# Altium schematic symbol library WiFi_Lib.SchLib: 67 symbols (part 2 of 3)
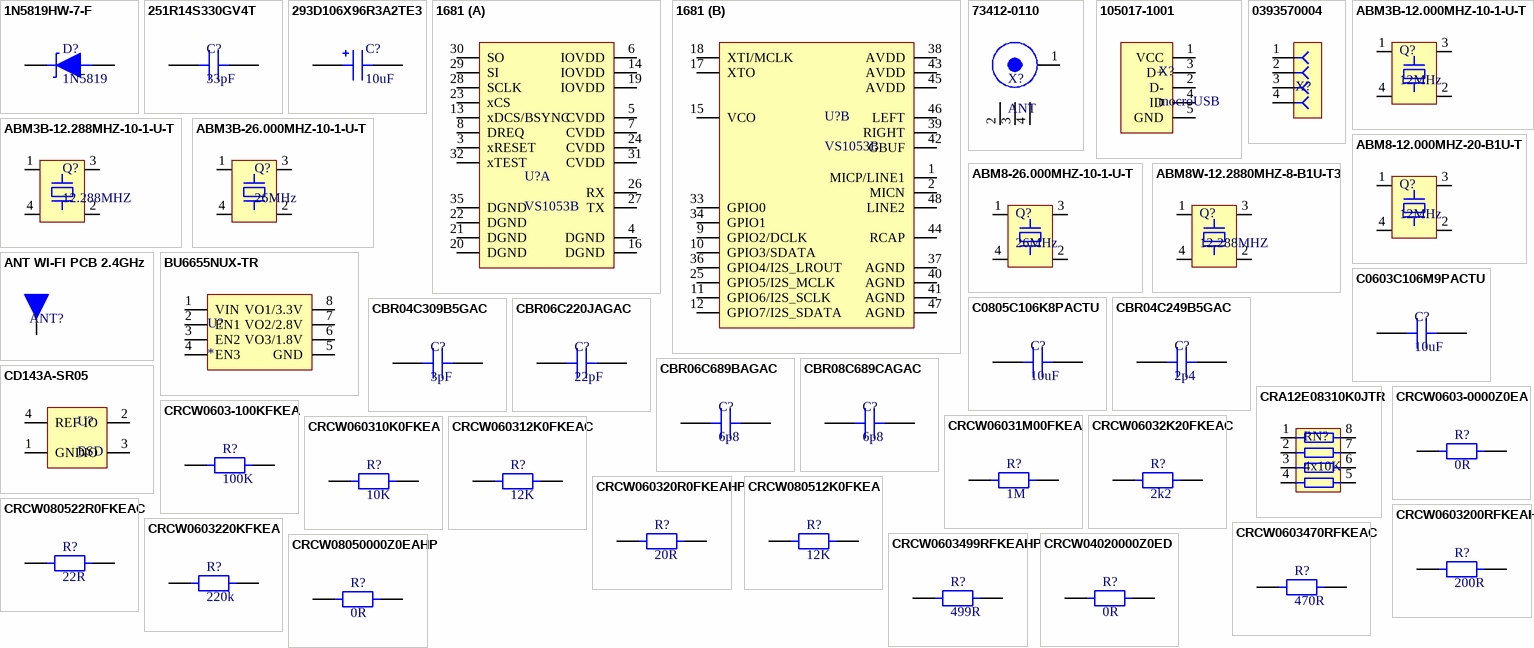
[diagram p2: symbols 1N5819HW-7-F to CRCW08050000Z0EAHP]

## CRCW060310K0FKEA
designator R?, comment 10K
RES SMD 10K 0603 1% 1/10W; Manufacturer: Vishay; Manufacturer Part Number: CRCW060310K0FKEA; Resistance: 10kR; Power Rating: 100mW; Voltage Rating: 75V; Temperature Coefficient: 100ppm/°C; Supplier 1: Digi-Key; Supplier Part Number 1: 541-10.0KHCT-ND; Stock 1: 2959816; Pricing 1: 1=0.1, 10=0.036, 100=0.0146, 1000=0.0065, 2500=0.0057 (USD); Case/Package: 0603; Number of Pins: 2; Weight: 7.1E-05oz; Case Code (Metric): 1608; Case Code (Imperial): 0603; Contact Plating: Tin,Lead; Min Operating Temperature: -55°C; Max Operating Temperature: 155°C; Tolerance: 1%; Packaging: Tape and Reel; Package Quantity: 10; Composition: Thick Film; Number of Terminations: 2; Military Standard: Not; Termination: SMD/SMT; Max Power Dissipation: 100mW; Voltage Rating (DC): 75V; Features: Automotive AEC-Q200; Length: 1.55mm; Height: 0.45mm; Width: 0.033inch; Depth: 0.85mm; Radiation Hardening: No; REACH SVHC: Unknown; Lead Free: Lead Free; ComponentLink1URL: http://www.vishay.com/docs/20008/dcrcw.pdf?src-supplier=Avnet+Europe; ComponentLink1Description: http://www.vishay.com/docs/20008/dcrcw.pdf?src-supplier=Avnet+Europe; ComponentLink2URL: https://www.verical.com/server-webapp/html/getDatasheet?partID=86831&src-supplier=Verical; ComponentLink2Description: https://www.verical.com/server-webapp/html/getDatasheet?partID=86831&src-supplier=Verical; ComponentLink3URL: http://www.farnell.com/datasheets/2310790.pdf?src-supplier=Allied+Electronics; ComponentLink3Description: http://www.farnell.com/datasheets/2310790.pdf?src-supplier=Allied+Electronics; ComponentLink4URL: http://www.vishay.com/docs/20035/dcrcwe3.pdf?src-supplier=Digi-Key; ComponentLink4Description: http://www.vishay.com/docs/20035/dcrcwe3.pdf?src-supplier=Digi-Key; ComponentLink5URL: http://www.farnell.com/datasheets/2310790.pdf?src-supplier=Mouser; ComponentLink5Description: http://www.farnell.com/datasheets/2310790.pdf?src-supplier=Mouser; ComponentLink6URL: http://www.farnell.com/datasheets/2310790.pdf?src-supplier=Element14; ComponentLink6Description: http://www.farnell.com/datasheets/2310790.pdf?src-supplier=Element14; ComponentLink7URL: http://www.farnell.com/datasheets/2310790.pdf?src-supplier=Avnet; ComponentLink7Description: http://www.farnell.com/datasheets/2310790.pdf?src-supplier=Avnet; ComponentLink8URL: http://www.vishay.com/docs/20035/dcrcwe3.pdf?src-supplier=Future+Electronics; ComponentLink8Description: http://www.vishay.com/docs/20035/dcrcwe3.pdf?src-supplier=Future+Electronics; ComponentLink9URL: http://uk.rs-online.com/webdocs/0d98/0900766b80d98afc.pdf?src-supplier=RSComponents; ComponentLink9Description: http://uk.rs-online.com/webdocs/0d98/0900766b80d98afc.pdf?src-supplier=RSComponents; ComponentLink10URL: http://www.farnell.com/datasheets/2310790.pdf?src-supplier=Distrelec; ComponentLink10Description: http://www.farnell.com/datasheets/2310790.pdf?src-supplier=Distrelec
footprint RES 0603 (Chip Resistor, 2-Leads, Body 1.60x0.85mm, IPC Medium Density)
pins: 1, 2

## CRCW060312K0FKEAC
designator R?, comment 12K
RES SMD 12K 0603 1% 1/10W; Manufacturer: Vishay; Manufacturer Part Number: CRCW060312K0FKEAC; Resistance: 12kR; Max Power Dissipation: 100mW; Temperature Coefficient: 100ppm/°C; Supplier 1: Digi-Key; Supplier Part Number 1: 541-4046-1-ND; Stock 1: 84165; Pricing 1: 1=0.1, 10=0.036, 100=0.0146, 1000=0.0065, 2500=0.0057 (USD); Case/Package: 0603; Case Code (Imperial): 0603; Case Code (Metric): 1608; Min Operating Temperature: -55°C; Max Operating Temperature: 155°C; Composition: Thick Film; Packaging: Cut Tape; Tolerance: 1%; Number of Terminations: 2; ComponentLink1URL: http://www.vishay.com/docs/28773/crcwce3.pdf?src-supplier=Digi-Key; ComponentLink1Description: http://www.vishay.com/docs/28773/crcwce3.pdf?src-supplier=Digi-Key
footprint RES 0603 (Chip Resistor, 2-Leads, Body 1.60x0.85mm, IPC Medium Density)
pins: 1, 2

## CRCW060320R0FKEAHP
designator R?, comment 20R
RES SMD 20 0603 1% 1/4W; Manufacturer: Vishay Dale; Manufacturer Part Number: CRCW060320R0FKEAHP; Power Rating: 250mW; Temperature Coefficient: 100ppm/°C; Voltage Rating: 75V; Supplier 1: Digi-Key; Supplier Part Number 1: 541-20.0SCT-ND; Stock 1: 2361; Pricing 1: 1=0.18, 10=0.149, 100=0.0581, 1000=0.0243, 2500=0.0223 (USD); Mount: Surface Mount; Case/Package: 0603; Weight: 7.1E-05oz; Case Code (Metric): 1608; Case Code (Imperial): 0603; Contact Plating: Tin; Min Operating Temperature: -55°C; Max Operating Temperature: 155°C; Resistance: 20R; Tolerance: 1%; Packaging: Tape and Reel; Package Quantity: 10; Composition: Thick Film; Number of Terminations: 2; Max Power Dissipation: 250mW; Features: Automotive AEC-Q200; Termination: Wraparound; Length: 1.6mm; Height: 0.45mm; Width: 0.033inch; Depth: 0.85mm; Radiation Hardening: No; Lead Free: Lead Free; ComponentLink1URL: http://www.vishay.com/docs/20043/crcwhpe3.pdf?src-supplier=Avnet; ComponentLink1Description: http://www.vishay.com/docs/20043/crcwhpe3.pdf?src-supplier=Avnet; ComponentLink2URL: http://www.vishay.com/docs/20043/crcwhpe3.pdf?src-supplier=Digi-Key; ComponentLink2Description: http://www.vishay.com/docs/20043/crcwhpe3.pdf?src-supplier=Digi-Key; ComponentLink3URL: http://www.vishay.com/doc?20043?src-supplier=Mouser; ComponentLink3Description: http://www.vishay.com/doc?20043?src-supplier=Mouser
footprint RES 0603 (Chip Resistor, 2-Leads, Body 1.60x0.85mm, IPC Medium Density)
pins: 1, 2

## CRCW080512K0FKEA
designator R?, comment 12K
RES SMD 12K 0805 1% 1/8W; Manufacturer: Vishay; Manufacturer Part Number: CRCW080512K0FKEA; Resistance: 12kR; Power Rating: 125mW; Voltage Rating: 150V; Temperature Coefficient: 100ppm/°C; Supplier 1: Digi-Key; Supplier Part Number 1: 541-12.0KCCT-ND; Stock 1: 69891; Mount: Surface Mount; Case/Package: 0805; Weight: 0.000194oz; Case Code (Metric): 2012; Case Code (Imperial): 0805; Contact Plating: Tin; Min Operating Temperature: -55°C; Max Operating Temperature: 155°C; Package Quantity: 10; Tolerance: 1%; Packaging: Tape and Reel; Composition: Thick Film; Number of Terminations: 2; Termination: SMD/SMT; Military Standard: Not; Max Power Dissipation: 125mW; Voltage Rating (DC): 150V; Features: Automotive AEC-Q200; Length: 2mm; Height: 0.45mm; Width: 0.049inch; Depth: 1.25mm; Radiation Hardening: No; REACH SVHC: Unknown; Lead Free: Lead Free; ComponentLink1URL: http://www.vishay.com/docs/20035/dcrcwe3.pdf?src-supplier=Digi-Key; ComponentLink1Description: http://www.vishay.com/docs/20035/dcrcwe3.pdf?src-supplier=Digi-Key; ComponentLink2URL: http://uk.rs-online.com/webdocs/13ec/0900766b813ecbf1.pdf?src-supplier=RSComponents; ComponentLink2Description: http://uk.rs-online.com/webdocs/13ec/0900766b813ecbf1.pdf?src-supplier=RSComponents; ComponentLink3URL: http://www.vishay.com/docs/20035/dcrcwe3.pdf?src-supplier=Avnet+Europe; ComponentLink3Description: http://www.vishay.com/docs/20035/dcrcwe3.pdf?src-supplier=Avnet+Europe; ComponentLink4URL: https://www.alliedelec.com/m/d/0c934d6939ccefa68dbe0b96d821c8cf.pdf?src-supplier=Allied+Electronics; ComponentLink4Description: https://www.alliedelec.com/m/d/0c934d6939ccefa68dbe0b96d821c8cf.pdf?src-supplier=Allied+Electronics; ComponentLink5URL: http://www.vishay.com/docs/20008/dcrcw.pdf?src-supplier=Future+Electronics; ComponentLink5Description: http://www.vishay.com/docs/20008/dcrcw.pdf?src-supplier=Future+Electronics; ComponentLink6URL: http://www.farnell.com/datasheets/2310790.pdf?src-supplier=Element14; ComponentLink6Description: http://www.farnell.com/datasheets/2310790.pdf?src-supplier=Element14
footprint RES 0805 (Chip Resistor, 2-Leads, Body 1.95x1.20mm, IPC Medium Density)
pins: 1, 2

## CRCW080522R0FKEAC
designator R?, comment 22R
RES SMD 22 0805 1% 1/8W; Manufacturer: Vishay Dale; Manufacturer Part Number: CRCW080522R0FKEAC; Max Power Dissipation: 125mW; Temperature Coefficient: 100ppm/°C; Supplier 1: Digi-Key; Supplier Part Number 1: 541-4151-1-ND; Stock 1: 86811; Case/Package: 0805; Case Code (Imperial): 0805; Case Code (Metric): 2012; Min Operating Temperature: -55°C; Max Operating Temperature: 155°C; Composition: Thick Film; Packaging: Tape and Reel; Resistance: 22R; Tolerance: 1%; Number of Terminations: 2; ComponentLink1URL: http://www.vishay.com/docs/28773/crcwce3.pdf?src-supplier=Digi-Key; ComponentLink1Description: http://www.vishay.com/docs/28773/crcwce3.pdf?src-supplier=Digi-Key
footprint RES 0805 (Chip Resistor, 2-Leads, Body 1.95x1.20mm, IPC Medium Density)
pins: 1, 2

## CRCW0603200RFKEAHP
designator R?, comment 200R
RES SMD 200 0603 1% 1/4W; Manufacturer: Vishay Dale; Manufacturer Part Number: CRCW0603200RFKEAHP; Power Rating: 250mW; Temperature Coefficient: 100ppm/°C; Supplier 1: Digi-Key; Supplier Part Number 1: 541-200SCT-ND; Stock 1: 55054; Pricing 1: 1=0.18, 10=0.149, 100=0.0581, 1000=0.0243, 2500=0.0223 (USD); Mount: Surface Mount; Case/Package: 0603; Case Code (Metric): 1608; Case Code (Imperial): 0603; Contact Plating: Tin; Min Operating Temperature: -55°C; Max Operating Temperature: 155°C; Package Quantity: 5000; Resistance: 200R; Tolerance: 1%; Packaging: Tape and Reel; Composition: Thick Film; Number of Terminations: 2; Max Power Dissipation: 250mW; Features: Automotive AEC-Q200; Length: 0.063inch; Height: 0.022inch; Width: 0.033inch; Radiation Hardening: No; Lead Free: Lead Free; ComponentLink1URL: http://www.vishay.com/docs/20043/crcwhpe3.pdf?src-supplier=Digi-Key; ComponentLink1Description: http://www.vishay.com/docs/20043/crcwhpe3.pdf?src-supplier=Digi-Key; ComponentLink2URL: http://www.vishay.com/docs/20043/crcwhpe3.pdf?src-supplier=Avnet; ComponentLink2Description: http://www.vishay.com/docs/20043/crcwhpe3.pdf?src-supplier=Avnet
footprint RES 0603 (Chip Resistor, 2-Leads, Body 1.60x0.85mm, IPC Medium Density)
pins: 1, 2

## CRCW0603220KFKEA
designator R?, comment 220k
RES SMD 220K 0603 1% 1/10W; Manufacturer: Vishay; Manufacturer Part Number: CRCW0603220KFKEA; Resistance: 220kR; Power Rating: 100mW; Voltage Rating: 75V; Temperature Coefficient: 100ppm/°C; Supplier 1: Digi-Key; Supplier Part Number 1: 541-220KHCT-ND; Stock 1: 19405; Pricing 1: 1=0.1, 10=0.036, 100=0.0146, 1000=0.0065, 2500=0.0057 (USD); Case/Package: 0603; Weight: 7.1E-05oz; Case Code (Imperial): 0603; Case Code (Metric): 1608; Contact Plating: Tin; Min Operating Temperature: -55°C; Max Operating Temperature: 155°C; Tolerance: 1%; Packaging: Tape and Reel; Package Quantity: 10; Composition: Thick Film; Termination: SMD/SMT; Number of Terminations: 2; Military Standard: Not; Max Power Dissipation: 100mW; Voltage Rating (DC): 75V; Features: Automotive AEC-Q200; Length: 1.55mm; Height: 0.45mm; Width: 0.85mm; Depth: 0.85mm; Radiation Hardening: No; REACH SVHC: Unknown; Lead Free: Lead Free; ComponentLink1URL: http://www.alliedelec.com/m/d/0c934d6939ccefa68dbe0b96d821c8cf.pdf?src-supplier=Allied+Electronics; ComponentLink1Description: http://www.alliedelec.com/m/d/0c934d6939ccefa68dbe0b96d821c8cf.pdf?src-supplier=Allied+Electronics; ComponentLink2URL: https://www.distrelec.biz/Web/Downloads/a_/en/flD-CRCW-e3_data_en.pdf?mime=application%2Fpdf&src-supplier=Distrelec; ComponentLink2Description: https://www.distrelec.biz/Web/Downloads/a_/en/flD-CRCW-e3_data_en.pdf?mime=application%2Fpdf&src-supplier=Distrelec; ComponentLink3URL: http://www.mouser.com/ds/2/427/dcrcwe3-109170.pdf?src-supplier=Mouser; ComponentLink3Description: http://www.mouser.com/ds/2/427/dcrcwe3-109170.pdf?src-supplier=Mouser; ComponentLink4URL: https://www.alliedelec.com/m/d/0c934d6939ccefa68dbe0b96d821c8cf.pdf?src-supplier=Allied+Electronics; ComponentLink4Description: https://www.alliedelec.com/m/d/0c934d6939ccefa68dbe0b96d821c8cf.pdf?src-supplier=Allied+Electronics; ComponentLink5URL: http://www.vishay.com/docs/20035/dcrcwe3.pdf?src-supplier=Digi-Key; ComponentLink5Description: http://www.vishay.com/docs/20035/dcrcwe3.pdf?src-supplier=Digi-Key; ComponentLink6URL: http://uk.rs-online.com/webdocs/0d98/0900766b80d98afc.pdf?src-supplier=RSComponents; ComponentLink6Description: http://uk.rs-online.com/webdocs/0d98/0900766b80d98afc.pdf?src-supplier=RSComponents; ComponentLink7URL: http://www.vishay.com/docs/20035/dcrcwe3.pdf?src-supplier=Avnet+Europe; ComponentLink7Description: http://www.vishay.com/docs/20035/dcrcwe3.pdf?src-supplier=Avnet+Europe; ComponentLink8URL: http://www.vishay.com/docs/20035/dcrcwe3.pdf?src-supplier=Avnet; ComponentLink8Description: http://www.vishay.com/docs/20035/dcrcwe3.pdf?src-supplier=Avnet; ComponentLink9URL: http://www.farnell.com/datasheets/2045673.pdf?src-supplier=Element14; ComponentLink9Description: http://www.farnell.com/datasheets/2045673.pdf?src-supplier=Element14
footprint RES 0603 (Chip Resistor, 2-Leads, Body 1.60x0.85mm, IPC Medium Density)
pins: 1, 2

## CRCW0603470RFKEAC
designator R?, comment 470R
RES SMD 470 0603 1% 1/10W; Manufacturer: Vishay; Manufacturer Part Number: CRCW0603470RFKEAC; Power Rating: 100mW; Supplier 1: Digi-Key; Supplier Part Number 1: 541-4038-1-ND; Stock 1: 239653; Pricing 1: 1=0.1, 10=0.036, 100=0.0146, 1000=0.0065, 2500=0.0057 (USD); Case/Package: 0603; Resistance: 470R; Tolerance: 1%; Lead Free: Lead Free; ComponentLink1URL: http://www.vishay.com/docs/28773/crcwce3.pdf?src-supplier=Digi-Key; ComponentLink1Description: http://www.vishay.com/docs/28773/crcwce3.pdf?src-supplier=Digi-Key
footprint RES 0603 (Chip Resistor, 2-Leads, Body 1.60x0.85mm, IPC Medium Density)
pins: 1, 2

## CRCW0603499RFKEAHP
designator R?, comment 499R
RES SMD 499 0603 1% 1/4W; Manufacturer: Vishay Dale; Manufacturer Part Number: CRCW0603499RFKEAHP; Power Rating: 250mW; Voltage Rating: 75V; Temperature Coefficient: 100ppm/°C; Supplier 1: Digi-Key; Supplier Part Number 1: 541-499SCT-ND; Stock 1: 127078; Pricing 1: 1=0.18, 10=0.149, 100=0.0581, 1000=0.0243, 2500=0.0223 (USD); Case/Package: 0603; Weight: 7.1E-05oz; Case Code (Metric): 1608; Case Code (Imperial): 0603; Contact Plating: Tin; Min Operating Temperature: -55°C; Max Operating Temperature: 155°C; Resistance: 499R; Tolerance: 1%; Packaging: Tape and Reel; Package Quantity: 10; Composition: Thick Film; Number of Terminations: 2; Termination: SMD/SMT; Military Standard: Not; Max Power Dissipation: 250mW; Features: Automotive AEC-Q200; Length: 1.6mm; Height: 0.45mm; Width: 0.033inch; Depth: 0.85mm; Radiation Hardening: No; Lead Free: Lead Free; ComponentLink1URL: http://www.vishay.com/docs/20043/crcwhpe3.pdf?src-supplier=Digi-Key; ComponentLink1Description: http://www.vishay.com/docs/20043/crcwhpe3.pdf?src-supplier=Digi-Key; ComponentLink2URL: http://www.mouser.com/ds/2/427/crcwhpe3-46056.pdf?src-supplier=Mouser; ComponentLink2Description: http://www.mouser.com/ds/2/427/crcwhpe3-46056.pdf?src-supplier=Mouser; ComponentLink3URL: http://www.vishay.com/docs/20043/crcwhpe3.pdf?src-supplier=Avnet; ComponentLink3Description: http://www.vishay.com/docs/20043/crcwhpe3.pdf?src-supplier=Avnet
footprint RES 0603 (Chip Resistor, 2-Leads, Body 1.60x0.85mm, IPC Medium Density)
pins: 1, 2

## CRCW04020000Z0ED
designator R?, comment 0R
RES SMD 0R 0402 JUMPER 1/16W; Manufacturer: Vishay; Manufacturer Part Number: CRCW04020000Z0ED; Resistance: 0mR; Tolerance: 5%; Power Rating: 63mW; Voltage Rating: 50V; Temperature Coefficient: 100ppm/°C; Supplier 1: Digi-Key; Supplier Part Number 1: 541-0.0JCT-ND; Stock 1: 2460113; Pricing 1: 1=0.1, 10=0.034, 25=0.0244, 50=0.0186, 100=0.0138, 250=0.0105, 500=0.0084, 1000=0.0062, 5000=0.0044 (USD); Mount: Surface Mount; Case/Package: 0402; Weight: 2.3E-05oz; Case Code (Imperial): 0402; Case Code (Metric): 1005; Contact Plating: Tin; Min Operating Temperature: -55°C; Max Operating Temperature: 155°C; Packaging: Tape and Reel; Package Quantity: 1; Composition: Thick Film; Termination: SMD/SMT; Number of Terminations: 2; Military Standard: Not; Max Power Dissipation: 63mW; Voltage Rating (DC): 50V; Features: Automotive AEC-Q200; Length: 1mm; Height: 0.35mm; Width: 0.5mm; Depth: 0.5mm; Radiation Hardening: No; REACH SVHC: Unknown; Lead Free: Lead Free; ComponentLink1URL: http://www.vishay.com/docs/20035/dcrcwe3.pdf?src-supplier=Avnet+Europe; ComponentLink1Description: http://www.vishay.com/docs/20035/dcrcwe3.pdf?src-supplier=Avnet+Europe; ComponentLink2URL: http://www.vishay.com/docs/20035/dcrcwe3.pdf?src-supplier=Avnet; ComponentLink2Description: http://www.vishay.com/docs/20035/dcrcwe3.pdf?src-supplier=Avnet; ComponentLink3URL: http://www.vishay.com/docs/20035/dcrcwe3.pdf?src-supplier=Digi-Key; ComponentLink3Description: http://www.vishay.com/docs/20035/dcrcwe3.pdf?src-supplier=Digi-Key; ComponentLink4URL: http://www.farnell.com/datasheets/2793682.pdf?src-supplier=Element14; ComponentLink4Description: http://www.farnell.com/datasheets/2793682.pdf?src-supplier=Element14; ComponentLink5URL: http://www.vishay.com/docs/20035/dcrcwe3.pdf?src-supplier=Allied+Electronics; ComponentLink5Description: http://www.vishay.com/docs/20035/dcrcwe3.pdf?src-supplier=Allied+Electronics; ComponentLink6URL: https://www.distrelec.biz/Web/Downloads/a_/en/flD-CRCW-e3_data_en.pdf?mime=application%2Fpdf&src-supplier=Distrelec; ComponentLink6Description: https://www.distrelec.biz/Web/Downloads/a_/en/flD-CRCW-e3_data_en.pdf?mime=application%2Fpdf&src-supplier=Distrelec
footprint RES 0405 - Jumper (Chip Resistor, 2-Leads, Body 1.00x0.50mm, IPC Medium Density)
pins: 1, 2

## CRCW08050000Z0EAHP
designator R?, comment 0R
RES SMD 0R 0805 JUMPER 1/2W; Manufacturer: Vishay Dale; Manufacturer Part Number: CRCW08050000Z0EAHP; Resistance: 0mR; Tolerance: 5%; Power Rating: 330mW; Voltage Rating: 150V; Max Power Dissipation: 500mW; Temperature Coefficient: 0ppm/°C; Supplier 1: Digi-Key; Supplier Part Number 1: 541-0.0TBCT-ND; Stock 1: 330626; Pricing 1: 1=0.25, 10=0.213, 25=0.1548, 50=0.1122, 100=0.0832, 250=0.0639, 500=0.0503, 1000=0.0349 (USD); Mount: Surface Mount; Case/Package: 0805; Number of Pins: 2; Weight: 0.000194oz; Case Code (Metric): 2012; Case Code (Imperial): 0805; Contact Plating: Tin; Min Operating Temperature: -55°C; Max Operating Temperature: 155°C; Packaging: Tape and Reel; Package Quantity: 5000; Composition: Thick Film; Number of Terminations: 2; Military Standard: Not; Termination: Solder; Voltage Rating (DC): 150V; Features: Automotive AEC-Q200; Length: 2mm; Height: 0.024inch; Width: 0.049inch; Depth: 1.25mm; Radiation Hardening: No; REACH SVHC: No SVHC; Lead Free: Lead Free; ComponentLink1URL: http://www.vishay.com/docs/20043/crcwhpe3.pdf?src-supplier=Future+Electronics; ComponentLink1Description: http://www.vishay.com/docs/20043/crcwhpe3.pdf?src-supplier=Future+Electronics; ComponentLink2URL: http://www.vishay.com/docs/20043/crcwhpe3.pdf?src-supplier=Digi-Key; ComponentLink2Description: http://www.vishay.com/docs/20043/crcwhpe3.pdf?src-supplier=Digi-Key; ComponentLink3URL: http://www.mouser.com/ds/2/427/crcwhpe3-46056.pdf?src-supplier=Mouser; ComponentLink3Description: http://www.mouser.com/ds/2/427/crcwhpe3-46056.pdf?src-supplier=Mouser; ComponentLink4URL: http://www.vishay.com/docs/20043/crcwhpe3.pdf?src-supplier=Avnet+Europe; ComponentLink4Description: http://www.vishay.com/docs/20043/crcwhpe3.pdf?src-supplier=Avnet+Europe; ComponentLink5URL: http://www.vishay.com/docs/20043/crcwhpe3.pdf?src-supplier=Avnet; ComponentLink5Description: http://www.vishay.com/docs/20043/crcwhpe3.pdf?src-supplier=Avnet; ComponentLink6URL: http://www.farnell.com/datasheets/2046716.pdf?src-supplier=Element14; ComponentLink6Description: http://www.farnell.com/datasheets/2046716.pdf?src-supplier=Element14
footprint RES 0805 - Jumper (Chip Resistor, 2-Leads, Body 1.95x1.20mm, IPC Medium Density)
pins: 1, 2

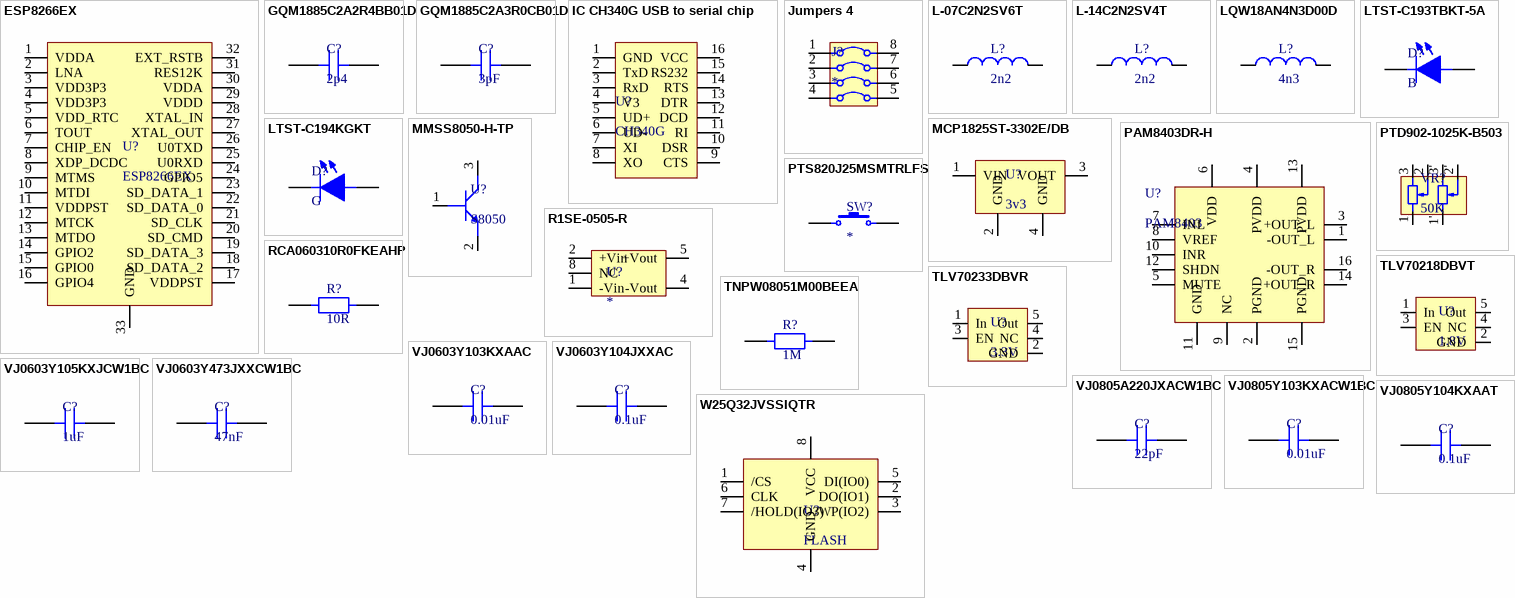
[diagram p1: symbols ESP8266EX to W25Q32JVSSIQTR]

## ESP8266EX
designator U?
IC ESP8266EX, QFN32-PIN, 5_5; Manufacturer: Espressif Systems; Interface: I2C,SPI,UART; Frequency: 2.4GHz; Data Rate: 54Mbps; Sensitivity: -91dBm; Number of GPIO: 8; Current - Receiving: 56mA; Current - Transmitting: 170mA; Supplier 1: Digi-Key; Supplier Part Number 1: 1904-1001-1-ND; Manufacturer Part Number: ESP8266EX; Stock 1: 4908; Pricing 1: 1=1.6 (USD); Packaging: Cut Tape; ComponentLink1URL: https://www.espressif.com/sites/default/files/documentation/esp8266_quick_start_guide_en.pdf?src-supplier=Digi-Key; ComponentLink1Description: https://www.espressif.com/sites/default/files/documentation/esp8266_quick_start_guide_en.pdf?src-supplier=Digi-Key
footprint QFN-32 Thermal (QFN, 32-Leads, Body 5.00x5.00mm, Pitch 0.50mm, Thermal Pad 3.70x3.70mm, IPC Medium Density)
pins: 1 VDDA, 2 LNA, 3 VDD3P3, 4 VDD3P3, 5 VDD_RTC, 6 TOUT, 7 CHIP_EN, 8 XDP_DCDC, 9 MTMS, 10 MTDI, 11 VDDPST, 12 MTCK, 13 MTDO, 14 GPIO2, 15 GPIO0, 16 GPIO4, 17 VDDPST, 18 SD_DATA_2, 19 SD_DATA_3, 20 SD_CMD, 21 SD_CLK, 22 SD_DATA_0, 23 SD_DATA_1, 24 GPIO5, 25 U0RXD, 26 U0TXD, 27 XTAL_OUT, 28 XTAL_IN, 29 VDDD, 30 VDDA, 31 RES12K, 32 EXT_RSTB, 33 GND

## GQM1885C2A2R4BB01D
designator C?, comment 2p4
CAP CER 2p4 0603 - SMD/SMT 2.4pF 100volts C0G +/-0.1pF; Manufacturer: Murata; Manufacturer Part Number: GQM1885C2A2R4BB01D; Voltage Rating: 100V; Temperature Coefficient: 30ppm/°C; Supplier 1: Digi-Key; Supplier Part Number 1: 490-6093-1-ND; Stock 1: 3198; Pricing 1: 1=0.68, 10=0.478, 100=0.3146, 500=0.233, 1000=0.1981 (USD); Mount: Surface Mount; Case/Package: 0603; Case Code (Imperial): 0603; Case Code (Metric): 1608; Min Operating Temperature: -55°C; Max Operating Temperature: 125°C; Capacitance: 2.4pF; Voltage Rating (DC): 100V; Packaging: Tape and Reel; Package Quantity: 1; Dielectric: C0G; Termination: SMD/SMT; Voltage: 100V; Length: 1.6mm; Height: 0.8mm; Width: 0.8mm; Thickness: 0.035inch; Depth: 0.8mm; Radiation Hardening: No; ComponentLink1URL: http://www.mouser.com/ds/2/281/c02e-2905.pdf?src-supplier=Mouser; ComponentLink1Description: http://www.mouser.com/ds/2/281/c02e-2905.pdf?src-supplier=Mouser; ComponentLink2URL: http://search.murata.co.jp/Ceramy/image/img/A01X/partnumbering_e_01.pdf?src-supplier=Digi-Key; ComponentLink2Description: http://search.murata.co.jp/Ceramy/image/img/A01X/partnumbering_e_01.pdf?src-supplier=Digi-Key; ComponentLink3URL: https://www.murata.com/~/media/webrenewal/support/library/catalog/products/capacitor/mlcc/c02e.ashx?la=en-us&src-supplier=Digi-Key; ComponentLink3Description: https://www.murata.com/~/media/webrenewal/support/library/catalog/products/capacitor/mlcc/c02e.ashx?la=en-us&src-supplier=Digi-Key
footprint CAP 0603 (Chip Capacitor, 2-Leads, Body 1.60x0.82mm, IPC Medium Density)
pins: 1, 2

## GQM1885C2A3R0CB01D
designator C?, comment 3pF
CAP CER 3PF 0603 100V C0G/NP0; Manufacturer: Murata; Manufacturer Part Number: GQM1885C2A3R0CB01D; Dielectric: C0G; Supplier 1: Digi-Key; Supplier Part Number 1: 490-3556-1-ND; Stock 1: 2764; Pricing 1: 1=0.52, 10=0.368, 100=0.2425, 500=0.1796, 1000=0.1527 (USD); Mount: Surface Mount; Case/Package: 0603; Case Code (Metric): 1608; Case Code (Imperial): 0603; Min Operating Temperature: -55°C; Max Operating Temperature: 125°C; Package Quantity: 1; Capacitance: 3pF; Voltage Rating: 100V; Packaging: Tape and Reel; Voltage Rating (DC): 100V; Termination: SMD/SMT; Length: 1.6mm; Height: 0.8mm; Width: 0.031inch; Thickness: 0.035inch; Depth: 0.8mm; Lead Free: Lead Free; ComponentLink1URL: http://search.murata.co.jp/Ceramy/image/img/A01X/partnumbering_e_01.pdf?src-supplier=Digi-Key; ComponentLink1Description: http://search.murata.co.jp/Ceramy/image/img/A01X/partnumbering_e_01.pdf?src-supplier=Digi-Key
footprint CAP 0603 (Chip Capacitor, 2-Leads, Body 1.60x0.82mm, IPC Medium Density)
pins: 1, 2

## IC CH340G USB to serial chip
designator U?, comment CH340G
IC CH340G USB to serial chip
footprint SOP-16 (SOP, 16-Leads, Body 9.90x3.90mm, Pitch 1.27mm, IPC Medium Density)
pins: 1 GND, 2 TxD, 3 RxD, 4 V3, 5 UD+, 6 UD-, 7 XI, 8 XO, 9 CTS, 10 DSR, 11 RI, 12 DCD, 13 DTR, 14 RTS, 15 RS232, 16 VCC

## Jumpers 4
designator J?
footprint HDR 8
pins: 1, 2, 3, 4, 5, 6, 7, 8

## L-07C2N2SV6T
designator L?, comment 2n2
IND SMD 2.2NH 0402 300MA 160 MOHM; Manufacturer: Johanson; Manufacturer Part Number: L-07C2N2SV6T; Core Material: Ceramic; Q Factor: 8; Shielding: Unshielded; DC Resistance (DCR): 160mR; Self Resonant Frequency: 12GHz; Test Frequency: 100MHz; Supplier 1: Digi-Key; Supplier Part Number 1: 712-1414-1-ND; Stock 1: 253343; Pricing 1: 1=0.1, 10=0.047, 100=0.0311, 500=0.0259, 1000=0.0217, 2500=0.0186 (USD); Mount: Surface Mount; Case/Package: 0402; Number of Pins: 2; Case Code (Metric): 1005; Case Code (Imperial): 0402; Min Operating Temperature: -40°C; Max Operating Temperature: 100°C; Packaging: Tape and Reel; Package Quantity: 1; Current Rating: 300mA; Inductance: 2.2nH; Max DC Current: 300mA; Termination: SMD/SMT; DC Current: 300mA; Military Standard: Not; Length: 1.1mm; Height: 0.5mm; Width: 0.5mm; Height - Seated (Max): 0.024inch; Depth: 0.6mm; Radiation Hardening: No; REACH SVHC: No SVHC; ComponentLink1URL: http://www.farnell.com/datasheets/1168792.pdf?src-supplier=Element14; ComponentLink1Description: http://www.farnell.com/datasheets/1168792.pdf?src-supplier=Element14
footprint IND 0402
pins: 1, 2

## L-14C2N2SV4T
designator L?, comment 2n2
IND SMD 2.2 nH 0603 L-14C2N2SV4T L-14C Series, 2n2 H,  0.3nH, [1608 Metric], 0.15 ohm; Manufacturer: Johanson; Core Material: Ceramic; Current Rating: 300mA; Shielding: Unshielded; Q Factor: 12; Inductance: 2.2nH; DC Resistance (DCR): 150mR; Self Resonant Frequency: 12GHz; Test Frequency: 100MHz; Supplier 1: Digi-Key; Supplier Part Number 1: 712-1427-1-ND; Manufacturer Part Number: L-14C2N2SV4T; Stock 1: 32067; Pricing 1: 1=0.1, 10=0.062, 100=0.0411, 500=0.0342, 1000=0.0288 (USD); Mount: Surface Mount; Case/Package: 0603; Number of Pins: 2; Case Code (Metric): 1608; Case Code (Imperial): 0603; Min Operating Temperature: -40°C; Max Operating Temperature: 100°C; Package Quantity: 1; Packaging: Tape and Reel; Max DC Current: 300mA; Termination: SMD/SMT; Composition: Ceramic; DC Current: 300mA; Military Standard: Not; Length: 1.75mm; Height: 0.8mm; Width: 0.031inch; Height - Seated (Max): 0.037inch; Depth: 0.95mm; Radiation Hardening: No; REACH SVHC: No SVHC; ComponentLink1URL: https://www.johansontechnology.com/downloads/jti-cat-rf-ind.pdf?src-supplier=Digi-Key; ComponentLink1Description: https://www.johansontechnology.com/downloads/jti-cat-rf-ind.pdf?src-supplier=Digi-Key; ComponentLink2URL: http://www.farnell.com/datasheets/1327494.pdf?src-supplier=Farnell; ComponentLink2Description: http://www.farnell.com/datasheets/1327494.pdf?src-supplier=Farnell; ComponentLink3URL: http://components.arrow.com/part/dataview/0323_01334558?src-supplier=Arrow+Europe; ComponentLink3Description: http://components.arrow.com/part/dataview/0323_01334558?src-supplier=Arrow+Europe; ComponentLink4URL: http://www.mouser.com/ds/2/611/JTI_CAT_2012_Inductors_Chip-242427.pdf?src-supplier=Mouser; ComponentLink4Description: http://www.mouser.com/ds/2/611/JTI_CAT_2012_Inductors_Chip-242427.pdf?src-supplier=Mouser; ComponentLink5URL: http://components.arrow.com/part/dataview/44128055S6965326N2069?src-supplier=Arrow; ComponentLink5Description: http://components.arrow.com/part/dataview/44128055S6965326N2069?src-supplier=Arrow; ComponentLink6URL: http://www.farnell.com/datasheets/1327494.pdf?src-supplier=Element14; ComponentLink6Description: http://www.farnell.com/datasheets/1327494.pdf?src-supplier=Element14; ComponentLink7URL: https://www.verical.com/server-webapp/html/getDatasheet?partID=38558&src-supplier=Verical; ComponentLink7Description: https://www.verical.com/server-webapp/html/getDatasheet?partID=38558&src-supplier=Verical
footprint IND 0603 (Chip Inductor, 2-Leads, Body 1.60x0.85mm, IPC Medium Density)
pins: 1, 2

## LQW18AN4N3D00D
designator L?, comment 4n3
IND SMD 4.3nH 0603 850mA FIXED 59 MOHM; Manufacturer: Murata; Manufacturer Part Number: LQW18AN4N3D00D; Core Material: Non-Magnetic,Ferrite; Q Factor: 35; Self Resonant Frequency: 6GHz; Shielding: Unshielded; DC Resistance (DCR): 59mR; Test Frequency: 100MHz; Supplier 1: Digi-Key; Supplier Part Number 1: 490-1161-1-ND; Stock 1: 13187; Pricing 1: 1=0.17, 10=0.155, 100=0.1035, 500=0.0863, 1000=0.0725 (USD); Mount: Surface Mount; Case/Package: 0603; Weight: 0.000106oz; Case Code (Metric): 1608; Case Code (Imperial): 0603; Min Operating Temperature: -55°C; Max Operating Temperature: 125°C; Packaging: Tape and Reel; Inductance: 4.3nH; Package Quantity: 4000; Current Rating: 850mA; Max DC Current: 850mA; Termination: SMD/SMT; Composition: Wirewound; DC Current: 850mA; Military Standard: Not; Length: 1.6mm; Height: 0.8mm; Width: 0.8mm; Height - Seated (Max): 0.039inch; Depth: 1mm; Radiation Hardening: No; Lead Free: Lead Free; ComponentLink1URL: http://uk.rs-online.com/webdocs/1256/0900766b81256268.pdf?src-supplier=RSComponents; ComponentLink1Description: http://uk.rs-online.com/webdocs/1256/0900766b81256268.pdf?src-supplier=RSComponents; ComponentLink2URL: http://www.murata.com/~/media/webrenewal/support/library/catalog/products/inductor/chip/o05e.ashx?src-supplier=Digi-Key; ComponentLink2Description: http://www.murata.com/~/media/webrenewal/support/library/catalog/products/inductor/chip/o05e.ashx?src-supplier=Digi-Key; ComponentLink3URL: https://search.murata.co.jp/Ceramy/image/img/P02/JELF243A-0024.pdf?src-supplier=Digi-Key; ComponentLink3Description: https://search.murata.co.jp/Ceramy/image/img/P02/JELF243A-0024.pdf?src-supplier=Digi-Key
footprint IND 0603 LQW
pins: 1, 2

## LTST-C193TBKT-5A
designator D?, comment B
LED BLUE 0603 CLEAR CHIP SMD; Manufacturer: Vishay Lite-On; Manufacturer Part Number: LTST-C193TBKT-5A; Lens Color: Colorless; Forward Current: 20mA; Forward Voltage: 2.8V; Luminous Intensity: 15mcd; Viewing Angle: 130°; Lens Style: Diffused,Colorless,Rectangular,Clear; Dominant Wavelength: 475nm; Test Current: 5mA; Number of Elements: 1; Power Dissipation: 76mW; Reverse Voltage: 5V; Supplier 1: Digi-Key; Supplier Part Number 1: 160-1827-1-ND; Stock 1: 114316; Pricing 1: 1=0.45, 10=0.32, 100=0.1424, 500=0.0997, 1000=0.0819, 2500=0.0712 (USD); Mount: Surface Mount; Case/Package: 0603; Number of Pins: 2; Color: Blue; Case Code (Metric): 1608; Case Code (Imperial): 0603; Min Operating Temperature: -20°C; Max Operating Temperature: 80°C; Packaging: Tape and Reel; Package Quantity: 1; Illumination Color: Blue; Lens Transparency: Clear; Number of LEDs: 1; Length: 1.6mm; Height: 0.35mm; Width: 0.8mm; Depth: 0.8mm; Radiation Hardening: No; Lead Free: Lead Free; ComponentLink1URL: http://www.mouser.com/ds/2/239/Lite-On-LTST-C193TBKT-5A-187386.pdf?src-supplier=Mouser; ComponentLink1Description: http://www.mouser.com/ds/2/239/Lite-On-LTST-C193TBKT-5A-187386.pdf?src-supplier=Mouser; ComponentLink2URL: https://media.digikey.com/pdf/Data%20Sheets/Lite-On%20PDFs/LTST-C193TBKT-5A.pdf?src-supplier=Digi-Key; ComponentLink2Description: https://media.digikey.com/pdf/Data%20Sheets/Lite-On%20PDFs/LTST-C193TBKT-5A.pdf?src-supplier=Digi-Key; ComponentLink3URL: https://www.verical.com/server-webapp/html/getDatasheet?partID=293056&src-supplier=Verical; ComponentLink3Description: https://www.verical.com/server-webapp/html/getDatasheet?partID=293056&src-supplier=Verical; ComponentLink4URL: http://uk.rs-online.com/webdocs/0dc0/0900766b80dc0554.pdf?src-supplier=RSComponents; ComponentLink4Description: http://uk.rs-online.com/webdocs/0dc0/0900766b80dc0554.pdf?src-supplier=RSComponents; ComponentLink5URL: http://www1.futureelectronics.com/doc/LITE-ON/LTST-C193TBKT-5A.pdf?src-supplier=Future+Electronics; ComponentLink5Description: http://www1.futureelectronics.com/doc/LITE-ON/LTST-C193TBKT-5A.pdf?src-supplier=Future+Electronics
footprint LED 0603
pins: 1, 2

## LTST-C194KGKT
designator D?, comment G
LED GREEN 0603 574nm 2-Pin Chip LED T/R; Manufacturer: Vishay Lite-On; Manufacturer Part Number: LTST-C194KGKT; Lens Color: Colorless; Power Rating: 75mW; Luminous Intensity: 112mcd; Viewing Angle: 130°; Forward Voltage: 2.4V; Forward Current: 30mA; Lens Style: Diffused,Colorless,Rectangular; Lens Transparency: Clear; Test Current: 20mA; Dominant Wavelength: 576.5nm; Number of Elements: 1; Reverse Voltage: 5V; Supplier 1: Digi-Key; Supplier Part Number 1: 160-1834-1-ND; Stock 1: 36702; Pricing 1: 1=0.39, 10=0.283, 100=0.1256, 500=0.0879, 1000=0.0722, 2500=0.0628 (USD); Mount: Surface Mount; Case/Package: 0603; Number of Pins: 2; Color: Green; Case Code (Metric): 1608; Case Code (Imperial): 0603; Min Operating Temperature: -30°C; Max Operating Temperature: 85°C; Packaging: Tape and Reel; Package Quantity: 3000; Illumination Color: Green; Power Dissipation: 75mW; Number of LEDs: 1; Length: 1.6mm; Height: 0.35mm; Width: 0.8mm; Depth: 0.8mm; Radiation Hardening: No; Lead Free: Lead Free; ComponentLink1URL: http://optoelectronics.liteon.com/upload/download/DS22-2010-0197/LTST-C194KGKT.PDF?src-supplier=Digi-Key; ComponentLink1Description: http://optoelectronics.liteon.com/upload/download/DS22-2010-0197/LTST-C194KGKT.PDF?src-supplier=Digi-Key; ComponentLink2URL: https://www.verical.com/server-webapp/html/getDatasheet?partID=708771&src-supplier=Verical; ComponentLink2Description: https://www.verical.com/server-webapp/html/getDatasheet?partID=708771&src-supplier=Verical
footprint LED 0603
pins: 1, 2

## MCP1825ST-3302E/DB
designator U?, comment 3v3
IC REG LIN 3.3V 0.5A Automotive 4-Pin(3+Tab) SOT-223 T/R; Manufacturer: Microchip; Manufacturer Part Number: MCP1825ST-3302E/DB; Number of Outputs: 1; Min Input Voltage: 2.1V; Dropout Voltage: 210mV; Max Input Voltage: 6V; Output Current: 500mA; Input Bias Current: 120uA; Polarity: Positive; Quiescent Current: 220uA; Output Voltage Accuracy: 0.5%; Output Type: Fixed; Supplier 1: Digi-Key; Supplier Part Number 1: MCP1825ST-3302E/DBCT-ND; Stock 1: 17162; Pricing 1: 1=0.53, 25=0.4428, 100=0.4017 (USD); Mount: Surface Mount; Case/Package: SOT-223; Number of Pins: 3; Min Operating Temperature: -40°C; Max Operating Temperature: 125°C; Output Voltage: 3.3V; Packaging: Tape and Reel; Package Quantity: 4000; Number of Regulators: 1; Radiation Hardening: No; ComponentLink1URL: http://ww1.microchip.com/downloads/en/DeviceDoc/22056b.pdf?src-supplier=Avnet; ComponentLink1Description: http://ww1.microchip.com/downloads/en/DeviceDoc/22056b.pdf?src-supplier=Avnet; ComponentLink2URL: http://www.microchip.com/mymicrochip/filehandler.aspx?ddocname=en531698&src-supplier=Digi-Key; ComponentLink2Description: http://www.microchip.com/mymicrochip/filehandler.aspx?ddocname=en531698&src-supplier=Digi-Key
footprint SOT233-3 (SOT223, 4-Leads, Body 6.50x7.00mm (avg), Pitch 2.30mm, IPC Medium Density)
pins: 1 VIN, 2 GND, 3 VOUT, 4 GND

## MMSS8050-H-TP
designator U?, comment S8050
TRANS NPN 25V 1.5A SOT23; Manufacturer: MCC; Manufacturer Part Number: MMSS8050-H-TP; hFE Min: 120; Max Power Dissipation: 625mW; Collector Emitter Voltage (VCEO): 500mV; Collector Base Voltage (VCBO): 40V; Emitter Base Voltage (VEBO): 5V; Transition Frequency: 100MHz; Element Configuration: Single; Supplier 1: Digi-Key; Supplier Part Number 1: MMSS8050-H-TPMSCT-ND; Stock 1: 77779; Mount: Surface Mount; Case/Package: SOT-23; Number of Pins: 3; Min Operating Temperature: -55°C; Max Operating Temperature: 150°C; Packaging: Tape and Reel; Package Quantity: 3000; Polarity: NPN; Collector Emitter Saturation Voltage: 500mV; Max Collector Current: 1.5A; Collector Emitter Breakdown Voltage: 25V; Max Breakdown Voltage: 25V; Gain Bandwidth Product: 100MHz; Lead Free: Lead Free; ComponentLink1URL: http://www.mouser.com/ds/2/258/MMSS8050-255048.pdf?src-supplier=Mouser; ComponentLink1Description: http://www.mouser.com/ds/2/258/MMSS8050-255048.pdf?src-supplier=Mouser; ComponentLink2URL: http://www.mccsemi.com/up_pdf/MMSS8050(SOT-23).pdf?src-supplier=Digi-Key; ComponentLink2Description: http://www.mccsemi.com/up_pdf/MMSS8050(SOT-23).pdf?src-supplier=Digi-Key
footprint SOT-23 (SOT23, 3-Leads, Body 2.92x2.37mm, Pitch 0.90mm, IPC Medium Density)
pins: 1, 2, 3

## PAM8403DR-H
designator U?, comment PAM8403
IC AMP AUDIO 3W CLASS D 16SOIC; Manufacturer: Diodes; Manufacturer Part Number: PAM8403DR-H; Voltage Gain: 24dB; Min Supply Voltage: 2.5V; Max Supply Voltage: 5.5V; Power Supply Rejection Ratio (PSRR): 59dB; Operating Supply Voltage: 5V; Supplier 1: Digi-Key; Supplier Part Number 1: PAM8403DR-HDICT-ND; Stock 1: 8119; Pricing 1: 1=0.81, 10=0.714, 100=0.5472, 500=0.4326, 1000=0.3461 (USD); Mount: Surface Mount; Case/Package: SOP; Number of Pins: 16; Min Operating Temperature: -40°C; Max Operating Temperature: 85°C; Packaging: Tape and Reel; Package Quantity: 2500; Max Output Power: 3W; Radiation Hardening: No; ComponentLink1URL: http://www.diodes.com/datasheets/PAM8403H.pdf?src-supplier=Avnet; ComponentLink1Description: http://www.diodes.com/datasheets/PAM8403H.pdf?src-supplier=Avnet; ComponentLink2URL: https://www.diodes.com/assets/Datasheets/PAM8403H.pdf?src-supplier=Digi-Key; ComponentLink2Description: https://www.diodes.com/assets/Datasheets/PAM8403H.pdf?src-supplier=Digi-Key
footprint SOP-16 Thermal (SOP, 16-Leads, Body 9.90x3.90mm, Pitch 1.27mm, Thermal Pad 5.00x3.00mm, IPC Medium Density)
pins: 1 -OUT_L, 2 PGND, 3 +OUT_L, 4 PVDD, 5 MUTE, 6 VDD, 7 INL, 8 VREF, 9 NC, 10 INR, 11 GND, 12 SHDN, 13 PVDD, 14 +OUT_R, 15 PGND, 16 -OUT_R

## PTD902-1025K-B503
designator VR?, comment 50K
POT 50K LINEAR; Manufacturer: Bourns; Manufacturer Part Number: PTD902-1025K-B503; Resistance: 50kR; Power Rating: 50mW; Tolerance: 10%; Number of Gangs: 2; Number of Turns: 1; Actuator Length: 0.984inch; Actuator Diameter: 0.236inch; Supplier 1: Digi-Key; Supplier Part Number 1: PTD902-1025K-B503-ND; Stock 1: 183; Pricing 1: 1=2.01, 10=1.769, 25=1.586, 50=1.525, 108=1.464, 324=1.403, 540=1.159, 1080=1.098, 5076=0.915 (USD); Mount: Panel,Through Hole; Min Operating Temperature: -10°C; Max Operating Temperature: 50°C; Package Quantity: 108; Packaging: Bulk; Taper: Linear; Termination: Pin; Composition: Carbon; Military Standard: Not; Max Power Dissipation: 50mW; Type: Potentiometer; Length: 34.65mm; Depth: 9.5mm; Radiation Hardening: No; ComponentLink1URL: http://www.bourns.com/docs/Product-Datasheets/PTD90.pdf?src-supplier=Digi-Key; ComponentLink1Description: http://www.bourns.com/docs/Product-Datasheets/PTD90.pdf?src-supplier=Digi-Key; ComponentLink2URL: http://www.mouser.com/ds/2/54/TD90-777943.pdf?src-supplier=Mouser; ComponentLink2Description: http://www.mouser.com/ds/2/54/TD90-777943.pdf?src-supplier=Mouser
footprint POT PTD902
pins: 1, 1', 2, 2', 3, 3'

## PTS820J25MSMTRLFS
designator SW?
SWITCH TACT SPST-NO 0.05A 12V; Manufacturer: ITT C&K; Manufacturer Part Number: PTS820J25MSMTRLFS; Mechanical Life: 200000Cycles; Operating Force: 160gf; Current Rating: 50mA; Illumination Type: Non-Illuminated; Throw Configuration: SPST; Switch Travel: 0.2mm; Switch Function: Off-Mom; Actuator Type: Standard; Supplier 1: Digi-Key; Supplier Part Number 1: CKN10839CT-ND; Stock 1: 9227; Pricing 1: 1=0.51, 10=0.489, 25=0.4804, 50=0.4622, 100=0.3988, 250=0.3625, 500=0.3444, 1000=0.2719 (USD); Mount: Surface Mount; Color: Silver; Contact Plating: Silver; Min Operating Temperature: -40°C; Max Operating Temperature: 85°C; Package Quantity: 2300; Packaging: Tape and Reel; Voltage Rating (DC): 12V
footprint SWITCH MICRO
pins: 1, 2

## R1SE-0505-R
designator U?
DC DC CONVERTER 5V 1W; Manufacturer: Recom; Manufacturer Part Number: R1SE-0505-R; Number of Outputs: 1; Efficiency: 75%; Min Input Voltage: 4.5V; Max Input Voltage: 5.5V; Max Output Current: 200mA; Isolation Voltage: 1kV; Isolation: Isolated; Supplier 1: Digi-Key; Supplier Part Number 1: 945-1659-1-ND; Stock 1: 12574; Pricing 1: 1=3.21, 5=3.162, 10=3.117, 25=3.0252, 50=2.9334, 100=2.8418, 250=2.7501 (USD); Mount: Surface Mount; Case/Package: SMD/SMT; Number of Pins: 5; Weight: 1g; Min Operating Temperature: -40°C; Max Operating Temperature: 85°C; Packaging: Tape and Reel; Package Quantity: 1; Output Voltage: 5V; Nominal Output Voltage: 5V; Nominal Input Voltage: 5V; Output Power: 1W; Output Current: 200mA; Min Input Voltage (DC): 4.5V; Voltage - Output 1: 5V; Current - Output 1: 200mA; Max Input Voltage (DC): 5.5V; Max Output Power: 1W; Max Power Dissipation: 1W; Max Output Voltage: 5V; Features: SCP; Length: 12.75mm; Height: 6.7mm; Width: 10.7mm; Depth: 12.75mm; REACH SVHC: No SVHC; Lead Free: Lead Free; ComponentLink1URL: http://www.rapidonline.com/pdf/676127_da_en_01.pdf?src-supplier=Rapid+Electronics; ComponentLink1Description: http://www.rapidonline.com/pdf/676127_da_en_01.pdf?src-supplier=Rapid+Electronics; ComponentLink2URL: https://www.recom-power.com/pdf/Econoline/R1SE.pdf?src-supplier=Digi-Key; ComponentLink2Description: https://www.recom-power.com/pdf/Econoline/R1SE.pdf?src-supplier=Digi-Key; ComponentLink3URL: http://www.farnell.com/datasheets/1662785.pdf?src-supplier=Element14; ComponentLink3Description: http://www.farnell.com/datasheets/1662785.pdf?src-supplier=Element14
footprint R1SE DC/DC
pins: 1 -Vin, 2 +Vin, 4 -Vout, 5 +Vout, 8 NC

## RCA060310R0FKEAHP
designator R?, comment 10R
RES SMD 10 0603 1% 1/4W; Manufacturer: Vishay Dale; Manufacturer Part Number: RCA060310R0FKEAHP; Core Material: Non-Magnetic; Tolerance: 2%; Max Power Dissipation: 250mW; Temperature Coefficient: 100ppm/°C; Inductance: 15nH; Current Rating: 700mA; Shielding: Unshielded; DC Resistance (DCR): 170mR; Self Resonant Frequency: 4GHz; Test Frequency: 250MHz; Supplier 1: Digi-Key; Supplier Part Number 1: 541-3243-1-ND; Stock 1: 23109; Pricing 1: 1=0.18, 10=0.156, 100=0.0611, 1000=0.0256, 2500=0.0234 (USD); Mount: Surface Mount; Case/Package: 0603; Case Code (Imperial): 0603; Case Code (Metric): 1608; Min Operating Temperature: -55°C; Max Operating Temperature: 125°C; Composition: Thick Film,Wirewound; Features: Automotive AEC-Q200,Anti-Sulfur; Packaging: Cut Tape; Resistance: 10R; Number of Terminations: 2; Ratings: AEC-Q200; ComponentLink1URL: http://www.vishay.com/docs/20067/rcahp.pdf?src-supplier=Digi-Key; ComponentLink1Description: http://www.vishay.com/docs/20067/rcahp.pdf?src-supplier=Digi-Key
footprint RES 0603 (Chip Resistor, 2-Leads, Body 1.60x0.85mm, IPC Medium Density)
pins: 1, 2

## TLV70218DBVT
designator U?, comment 1.8V
IC REG LIN 1.8V 300MA SOT23-5; Manufacturer: Texas Instruments; Manufacturer Part Number: TLV70218DBVT; Dropout Voltage: 220mV; Number of Outputs: 1; Max Power Dissipation: 500mW; Max Input Voltage: 5.5V; Min Input Voltage: 2V; Min Current Limit: 320mA; Polarity: Positive; Quiescent Current: 30uA; Accuracy: 2%; Output Voltage Accuracy: 0.5%; Output Type: Fixed; Supplier 1: Digi-Key; Supplier Part Number 1: 296-27889-1-ND; Stock 1: 3659; Pricing 1: 1=0.58, 10=0.495, 100=0.3696 (USD); Case/Package: SOT-23; Number of Pins: 5; Contact Plating: Gold; Min Operating Temperature: -40°C; Max Operating Temperature: 125°C; Nominal Output Voltage: 1.8V; Output Current: 300mA; Output Voltage: 1.8V; Packaging: Tape and Reel; Package Quantity: 1; Max Output Current: 300mA; Number of Regulators: 1; Power Dissipation: 500mW; Min Output Voltage: 1.8V; Power Rating: 500mW; Max Output Voltage: 1.8V; Length: 3.05mm; Height: 1.3mm; Width: 1.75mm; REACH SVHC: No SVHC; Lead Free: Lead Free; ComponentLink1URL: http://www.ti.com/lit/ds/symlink/tlv702.pdf?src-supplier=Digi-Key; ComponentLink1Description: http://www.ti.com/lit/ds/symlink/tlv702.pdf?src-supplier=Digi-Key
footprint SOT-23-5 (SOT23, 5-Leads, Body 2.90x2.80mm, Pitch 0.95mm, IPC Medium Density)
pins: 1 In, 2 GND, 3 EN, 4 NC, 5 Out

## TLV70233DBVR
designator U?, comment 3.3V
IC REG LIN 3.3V 300mALow IQLDO Reg; Manufacturer: Texas Instruments; Manufacturer Part Number: TLV70233DBVR; Output Current: 300mA; Number of Outputs: 1; Max Power Dissipation: 500mW; Dropout Voltage: 375mV; Max Input Voltage: 5.5V; Min Input Voltage: 2V; Min Current Limit: 320mA; Polarity: Positive; Output Voltage Accuracy: 0.5%; Accuracy: 2%; Quiescent Current: 30uA; Power Supply Rejection Ratio (PSRR): 68dB; Output Type: Fixed; Supplier 1: Digi-Key; Supplier Part Number 1: 296-32415-1-ND; Stock 1: 29164; Pricing 1: 1=0.5, 10=0.428, 100=0.3192, 500=0.2508, 1000=0.1938 (USD); Case/Package: SOT-23-5; Number of Pins: 5; Min Operating Temperature: -40°C; Max Operating Temperature: 125°C; Output Voltage: 3.3V; Packaging: Tape and Reel; Package Quantity: 1; Nominal Output Voltage: 3.3V; Max Output Current: 300mA; Number of Regulators: 1; Power Dissipation: 500mW; Min Output Voltage: 3.3V; Max Output Voltage: 3.3V; Radiation Hardening: No; REACH SVHC: No SVHC; Lead Free: Lead Free; ComponentLink1URL: http://www.farnell.com/datasheets/1882072.pdf?src-supplier=Element14; ComponentLink1Description: http://www.farnell.com/datasheets/1882072.pdf?src-supplier=Element14; ComponentLink2URL: http://www.ti.com/lit/ds/symlink/tlv702.pdf?src-supplier=Digi-Key; ComponentLink2Description: http://www.ti.com/lit/ds/symlink/tlv702.pdf?src-supplier=Digi-Key
footprint SOT-23-5 (SOT23, 5-Leads, Body 2.90x2.80mm, Pitch 0.95mm, IPC Medium Density)
pins: 1 In, 2 GND, 3 EN, 4 NC, 5 Out

## TNPW08051M00BEEA
designator R?, comment 1M
RES SMD 1M 0805 1/8W 0.1%; Manufacturer: Vishay Dale; Manufacturer Part Number: TNPW08051M00BEEA; Voltage Rating: 150V; Power Rating: 125mW; Resistance: 1MR; Temperature Coefficient: 25ppm/°C; Voltage Rating (DC): 75V; Supplier 1: Digi-Key; Supplier Part Number 1: 541-2059-1-ND; Stock 1: 13701; Mount: Surface Mount; Case/Package: 0805; Number of Pins: 2; Case Code (Metric): 2012; Case Code (Imperial): 0805; Contact Plating: Tin; Min Operating Temperature: -55°C; Max Operating Temperature: 125°C; Package Quantity: 5000; Packaging: Tape and Reel; Tolerance: 0.1%; Composition: Thin Film; Termination: SMD/SMT; Number of Terminations: 2; Military Standard: Not; Max Power Dissipation: 125mW; Features: Automotive AEC-Q200,Moisture Resistant,Anti-Sulfur; Length: 2mm; Height: 0.022inch; Width: 1.25mm; Depth: 1.25mm; Radiation Hardening: No; REACH SVHC: Unknown; ComponentLink1URL: http://www.vishay.com/docs/28758/tnpw_e3.pdf?src-supplier=Digi-Key; ComponentLink1Description: http://www.vishay.com/docs/28758/tnpw_e3.pdf?src-supplier=Digi-Key; ComponentLink2URL: http://www.vishay.com/docs/28758/tnpw_e3.pdf?src-supplier=Avnet; ComponentLink2Description: http://www.vishay.com/docs/28758/tnpw_e3.pdf?src-supplier=Avnet
footprint RES 0805 (Chip Resistor, 2-Leads, Body 1.95x1.20mm, IPC Medium Density)
pins: 1, 2

## VJ0603Y103KXAAC
designator C?, comment 0.01uF
CAP CER 0.01uF 0603 10 nF 50 V ±10 % Tolerance X7R SMT Multilayer Ceramic Chip Capacitor; Manufacturer: Vishay Vitramon; Manufacturer Part Number: VJ0603Y103KXAAC; Tolerance: 10%; Capacitance: 10nF; Voltage Rating: 50V; Supplier 1: Digi-Key; Supplier Part Number 1: 720-1376-1-ND; Stock 1: 728512; Pricing 1: 1=0.26, 10=0.179, 100=0.1013, 500=0.0715, 1000=0.0625 (USD); Mount: Surface Mount; Case/Package: 0603; Number of Pins: 2; Weight: 7.1E-05oz; Case Code (Metric): 1608; Case Code (Imperial): 0603; Contact Plating: Tin,Matte; Min Operating Temperature: -55°C; Max Operating Temperature: 125°C; Packaging: Tape and Reel; Package Quantity: 4000; Voltage Rating (DC): 50V; Dielectric: X7R; Termination: SMD/SMT; Voltage: 50V; Length: 1.6mm; Height: 0.92mm; Width: 0.031inch; Thickness: 0.036inch; Depth: 0.8mm; Radiation Hardening: No; REACH SVHC: Unknown; Lead Free: Lead Free; ComponentLink1URL: http://www.farnell.com/datasheets/1805045.pdf?src-supplier=Element14; ComponentLink1Description: http://www.farnell.com/datasheets/1805045.pdf?src-supplier=Element14; ComponentLink2URL: http://www.farnell.com/datasheets/2049137.pdf?src-supplier=Element14; ComponentLink2Description: http://www.farnell.com/datasheets/2049137.pdf?src-supplier=Element14; ComponentLink3URL: http://www.farnell.com/datasheets/50102.pdf?src-supplier=Element14; ComponentLink3Description: http://www.farnell.com/datasheets/50102.pdf?src-supplier=Element14; ComponentLink4URL: http://www.vishay.com/docs/45051/vjvitramonpackaging.pdf?src-supplier=Digi-Key; ComponentLink4Description: http://www.vishay.com/docs/45051/vjvitramonpackaging.pdf?src-supplier=Digi-Key
footprint CAP 0603 (Chip Capacitor, 2-Leads, Body 1.60x0.82mm, IPC Medium Density)
pins: 1, 2

## VJ0603Y104JXXAC
designator C?, comment 0.1uF
CAP CER 0.1uF 0603- SMD/SMT .1UF 25V 5% 0603; Manufacturer: Vishay Vitramon; Manufacturer Part Number: VJ0603Y104JXXAC; Capacitance: 100nF; Dielectric: X7R; Supplier 1: Digi-Key; Supplier Part Number 1: 720-1545-1-ND; Stock 1: 126786; Pricing 1: 1=0.34, 10=0.233, 100=0.1397, 500=0.1048, 1000=0.0885 (USD); Mount: Surface Mount; Case/Package: 0603; Case Code (Metric): 1608; Case Code (Imperial): 0603; Min Operating Temperature: -55°C; Max Operating Temperature: 125°C; Package Quantity: 4000; Voltage Rating: 25V; Tolerance: 5%; Packaging: Tape and Reel; Voltage Rating (DC): 25V; Termination: SMD/SMT; Length: 1.6mm; Width: 0.031inch; Thickness: 0.036inch; Depth: 0.8mm; Radiation Hardening: No; ComponentLink1URL: http://www.vishay.com/docs/45199/vjcommercialseries.pdf?src-supplier=Digi-Key; ComponentLink1Description: http://www.vishay.com/docs/45199/vjcommercialseries.pdf?src-supplier=Digi-Key
footprint CAP 0603 (Chip Capacitor, 2-Leads, Body 1.60x0.82mm, IPC Medium Density)
pins: 1, 2